# EAGLE library part ULN2804APG (library Toshiba_By_element14_Batch_1)
Darlington Sink Driver
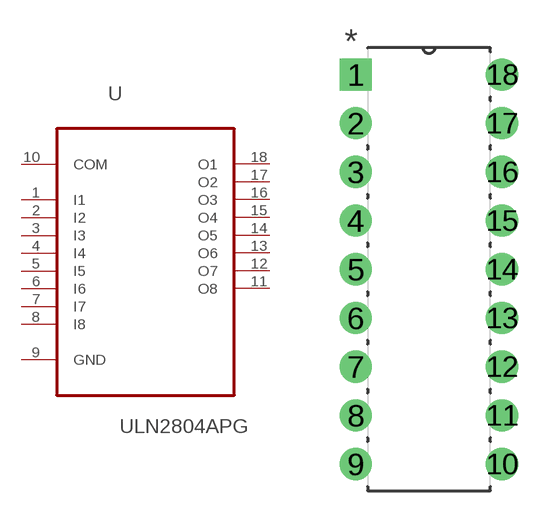
[diagram p3: symbol with the pads of DIP254P762X420-18; footprint DIP254P762X420-18]

Designator prefix U

## ULN2804APG (MPN: ULN2804APG; OC_FARNELL: 1047762; OC_NEWARK: 93K1084; PACKAGE: DIP-18; SUPPLIER: TOSHIBA)  [DIP254P762X420-18]
1  I1  in
2  I2  in
3  I3  in
4  I4  in
5  I5  in
6  I6  in
7  I7  in
8  I8  in
9  GND  in
10  COM  in
11  O8  out
12  O7  out
13  O6  out
14  O5  out
15  O4  out
16  O3  out
17  O2  out
18  O1  out

## Footprint DIP254P762X420-18 (pad centres in mm)
drill 1.118 square: 1 -7.62,20.32
drill 1.118: 2 -7.62,17.78; 3 -7.62,15.24; 4 -7.62,12.7; 5 -7.62,10.16; 6 -7.62,7.62; 7 -7.62,5.08; 8 -7.62,2.54; 9 -7.62,0; 10 0,0; 11 0,2.54; 12 0,5.08; 13 0,7.62; 14 0,10.16; 15 0,12.7; 16 0,15.24; 17 0,17.78; 18 0,20.32